# Altium schematic symbol library ZYNQ_ECO_R6.SCHLIB: 32 symbols
Pins are listed as number, name and electrical type; pins without a type are passive.

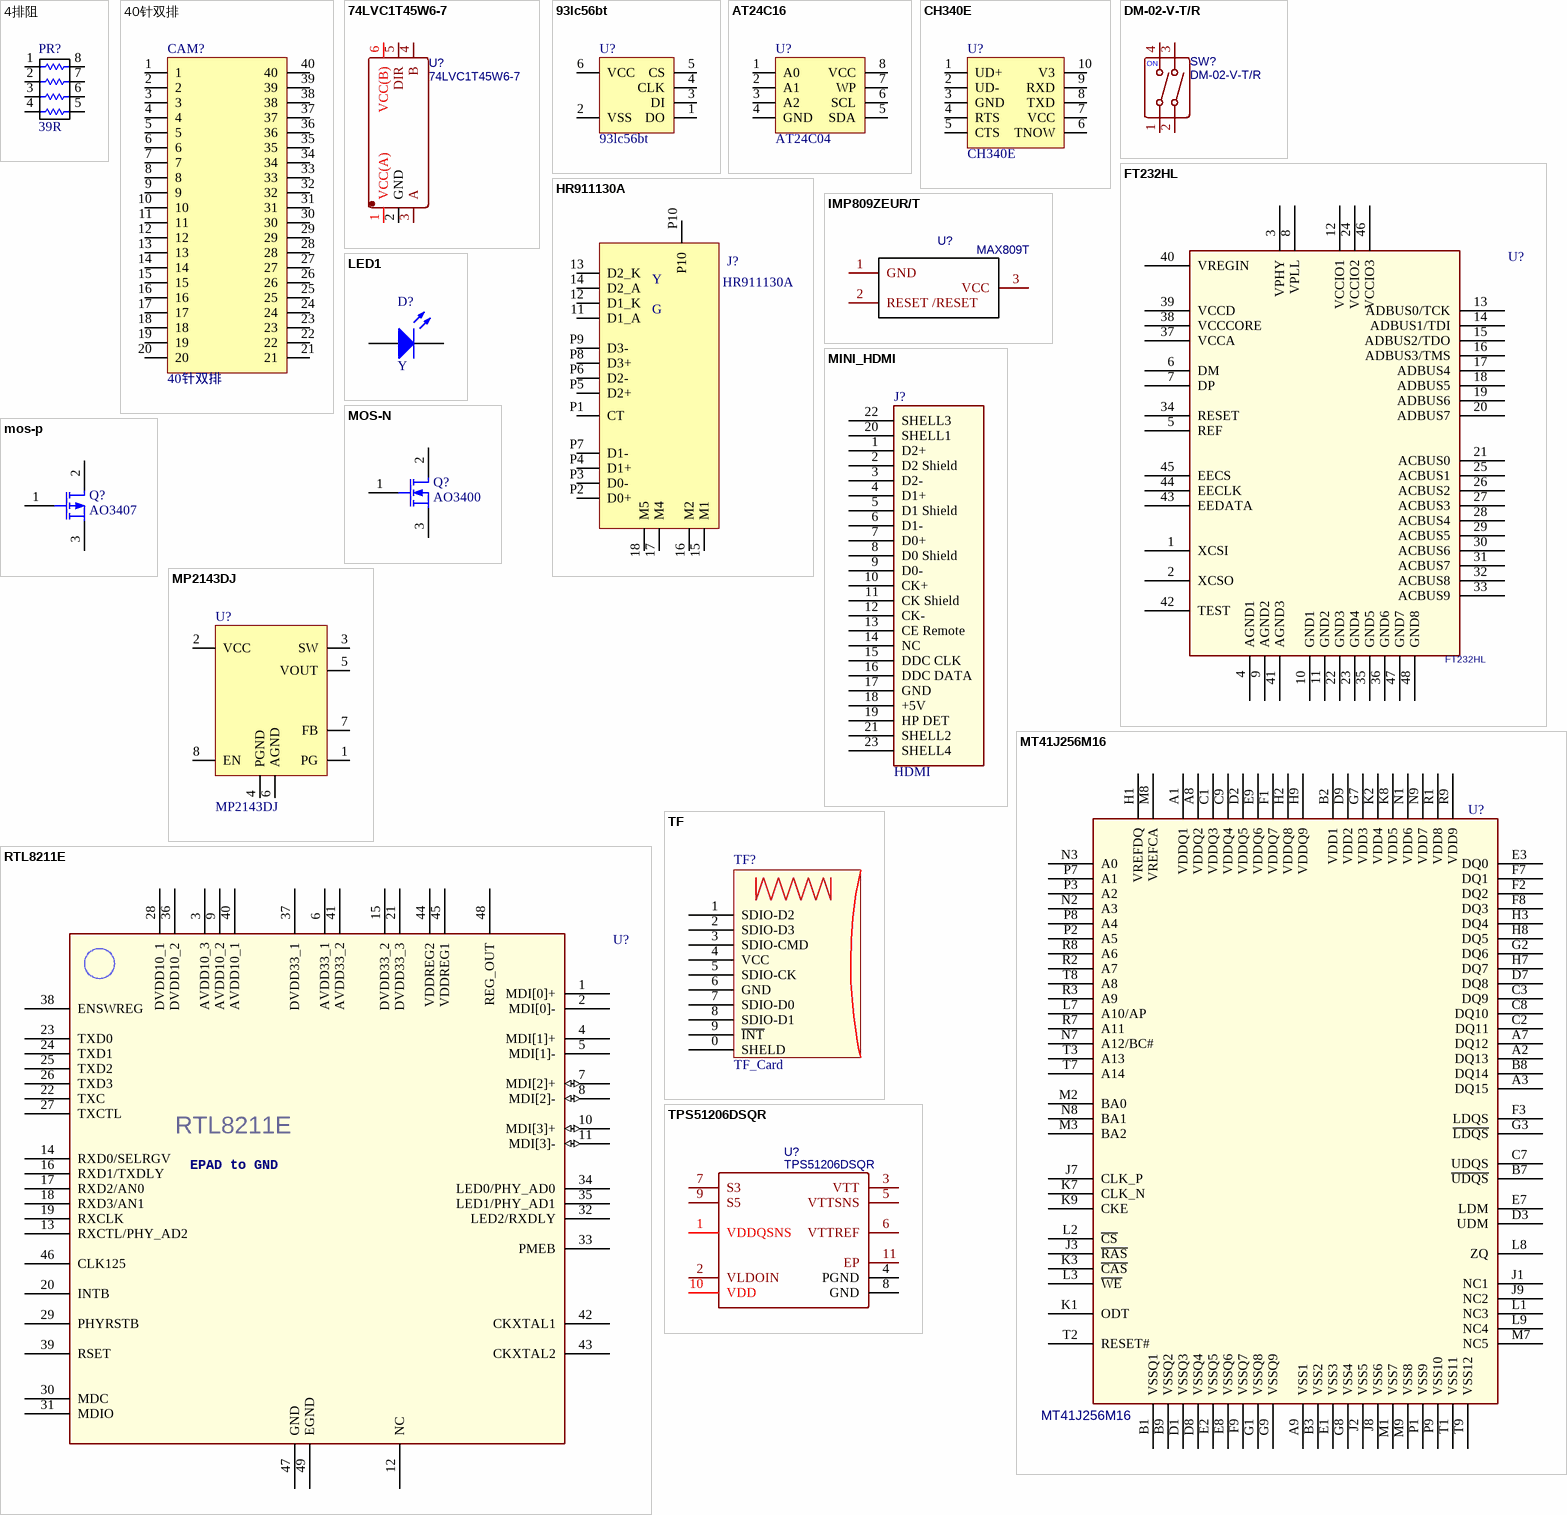
[diagram p0: symbols 4排阻 to TPS51206DSQR]

## 4排阻
designator PR?, comment 39R
footprint 0603-4排阻
footprint 0402-4排阻
footprint 0402-4
pins: 1, 2, 3, 4, 5, 6, 7, 8

## 40针双排
designator CAM?
footprint 40针双排
pins: 1, 2, 3, 4, 5, 6, 7, 8, 9, 10, 11, 12, 13, 14, 15, 16, 17, 18, 19, 20, 21, 22, 23, 24, 25, 26, 27, 28, 29, 30, 31, 32, 33, 34, 35, 36, 37, 38, 39, 40

## 74LVC1T45W6-7
designator U?
BOM_Manufacturer: Diodes Incorporated; Contributor: LCSC; SMT Type: Extend; BOM_Supplier: LCSC; BOM_Supplier Part: C168856; BOM_Manufacturer Part: 74LVC1T45W6-7; BOM_LCSC Assembly: Yes; spicePre: U; spiceSymbolName: 74LVC1T45W6-7
footprint SOT23-6
pins: 1 VCC(A), 2 GND, 3 A, 4 B, 5 DIR, 6 VCC(B)

## 93lc56bt
designator U?
footprint SOT23-6
pins: 1 DO, 2 VSS, 3 DI, 4 CLK, 5 CS, 6 VCC

## AT24C16
designator U?, comment AT24C04
footprint QFN50P300X200X80_HS-9N (QFN, 8-Leads, Body 3.00x2.00mm, Pitch 0.50mm, Thermal Pad 2.00x2.20mm, IPC Medium Density)
pins: 1 A0, 2 A1, 3 A2, 4 GND, 5 SDA, 6 SCL, 7 WP, 8 VCC

## CH340E
designator U?
footprint CH340E
pins: 1 UD+, 2 UD-, 3 GND, 4 RTS, 5 CTS, 6 TNOW, 7 VCC, 8 TXD, 9 RXD, 10 V3

## DM-02-V-T/R
designator SW?
BOM_Manufacturer: Diptronics; Contributor: LCSC; BOM_Supplier: LCSC; BOM_Supplier Part: C225004; BOM_Manufacturer Part: DM-02-V-T/R; spicePre: S
footprint 2.54两段拨码开关
pins: 1, 2, 3, 4
text: ON

## FT232HL
designator U?
footprint qfp48
pins: 1 XCSI, 2 XCSO, 3 VPHY, 4 AGND1, 5 REF, 6 DM, 7 DP, 8 VPLL, 9 AGND2, 10 GND1, 11 GND2, 12 VCCIO1, 13 ADBUS0/TCK, 14 ADBUS1/TDI, 15 ADBUS2/TDO, 16 ADBUS3/TMS, 17 ADBUS4, 18 ADBUS5, 19 ADBUS6, 20 ADBUS7, 21 ACBUS0, 22 GND3, 23 GND4, 24 VCCIO2, 25 ACBUS1, 26 ACBUS2, 27 ACBUS3, 28 ACBUS4, 29 ACBUS5, 30 ACBUS6, 31 ACBUS7, 32 ACBUS8, 33 ACBUS9, 34 RESET, 35 GND5, 36 GND6, 37 VCCA, 38 VCCCORE, 39 VCCD, 40 VREGIN, 41 AGND3, 42 TEST, 43 EEDATA, 44 EECLK, 45 EECS, 46 VCCIO3, 47 GND7, 48 GND8

## HR911130A
designator J?
footprint HR911130A
pins: 11 D1_A, 12 D1_K, 13 D2_K, 14 D2_A, 15 M1, 16 M2, 17 M4, 18 M5, P1 CT, P2 D0+, P3 D0-, P4 D1+, P5 D2+, P6 D2-, P7 D1-, P8 D3+, P9 D3-, P10
text: Y; G

## IMP809ZEUR/T
designator U?, comment MAX809T
BOM_Manufacturer: IMP; BOM_Manufacturer Part: IMP809ZEUR/T; SMT Type: Extend; BOM_Supplier: LCSC; image: //image.lceda.cn/szlcsc/C72851.jpg; BOM_Supplier Part: C72851; BOM_LCSC Assembly: Yes; spicePre: U; spiceSymbolName: IMP809ZEUR/T
footprint imp809
pins: 1 GND, 2 RESET /RESET, 3 VCC

## LED1
designator D?, comment Y
Typical RED GaAs LED; Published: 8-Jun-2000; LatestRevisionDate: 08-Jul-2005; LatestRevisionNote: Mech Layer 1 removed.; PackageReference: LED-1; Publisher: Altium Limited; PackageDescription: LED; 2 Leads
footprint 0805
pins: 1 A, 2 K

## MINI_HDMI
designator J?, comment HDMI
footprint HDMI贴片
pins: 1 D2+, 2 D2 Shield, 3 D2-, 4 D1+, 5 D1 Shield, 6 D1-, 7 D0+, 8 D0 Shield, 9 D0-, 10 CK+, 11 CK Shield, 12 CK-, 13 CE Remote, 14 NC, 15 DDC CLK, 16 DDC DATA, 17 GND, 18 +5V, 19 HP DET, 20 SHELL1, 21 SHELL2, 22 SHELL3, 23 SHELL4

## MOS-N
designator Q?, comment AO3400
footprint SOT23-3
pins: 1 D, 2 G, 3 S

## mos-p
designator Q?, comment AO3407
footprint SOT23-3
pins: 1 D, 2 G, 3 S

## MP2143DJ
designator U?
footprint tsot23-8
pins: 1 PG, 2 VCC, 3 SW, 4 PGND, 5 VOUT, 6 AGND, 7 FB, 8 EN

## MT41J256M16
designator U?
footprint FBGA-96
pins: A1 VDDQ1 (power), A2 DQ13 (power), A3 DQ15 (power), A7 DQ12 (power), A8 VDDQ2 (power), A9 VSS1 (power), B1 VSSQ1 (power), B2 VDD1 (power), B3 VSS2 (power), B7 ~{UDQS} (power), B8 DQ14 (power), B9 VSSQ2 (power), C1 VDDQ3 (power), C2 DQ11 (power), C3 DQ9 (power), C7 UDQS (power), C8 DQ10 (power), C9 VDDQ4 (power), D1 VSSQ3 (power), D2 VDDQ5 (power), D3 UDM, D7 DQ8 (power), D8 VSSQ4 (power), D9 VDD2 (power), E1 VSS3 (power), E2 VSSQ5 (power), E3 DQ0 (power), E7 LDM, E8 VSSQ6 (power), E9 VDDQ6 (power), F1 VDDQ7 (power), F2 DQ2 (power), F3 LDQS (power), F7 DQ1 (power), F8 DQ3 (power), F9 VSSQ7 (power), G1 VSSQ8 (power), G2 DQ6 (power), G3 ~{LDQS} (power), G7 VDD3 (power), G8 VSS4 (power), G9 VSSQ9 (power), H1 VREFDQ (power), H2 VDDQ8 (power), H3 DQ4 (power), H7 DQ7 (power), H8 DQ5 (power), H9 VDDQ9 (power), J1 NC1, J2 VSS5 (power), J3 ~{RAS}, J7 CLK_P, J8 VSS6 (power), J9 NC2, K1 ODT, K2 VDD4 (power), K3 ~{CAS}, K7 CLK_N, K8 VDD5 (power), K9 CKE, L1 NC3, L2 ~{CS}, L3 ~{WE}, L7 A10/AP, L8 ZQ (power), L9 NC4, M1 VSS7 (power), M2 BA0, M3 BA2, M7 NC5, M8 VREFCA (power), M9 VSS8 (power), N1 VDD6 (power), N2 A3, N3 A0, N7 A12/BC#, N8 BA1, N9 VDD7 (power), P1 VSS9 (power), P2 A5, P3 A2, P7 A1, P8 A4, P9 VSS10 (power), R1 VDD8 (power), R2 A7, R3 A9, R7 A11, R8 A6, R9 VDD9 (power), T1 VSS11 (power), T2 RESET# (power), T3 A13, T7 A14 (power), T8 A8, T9 VSS12 (power)

## RTL8211E
designator U?  (value not drawn)
footprint RTL8211-48
pins: 1 MDI[0]+, 2 MDI[0]-, 3 AVDD10_3 (power), 4 MDI[1]+, 5 MDI[1]-, 6 AVDD33_1 (power), 7 MDI[2]+ (io), 8 MDI[2]- (io), 9 AVDD10_2 (power), 10 MDI[3]+ (io), 11 MDI[3]- (io), 12 NC, 13 RXCTL/PHY_AD2, 14 RXD0/SELRGV, 15 DVDD33_2 (power), 16 RXD1/TXDLY, 17 RXD2/AN0, 18 RXD3/AN1, 19 RXCLK, 20 INTB, 21 DVDD33_3 (power), 22 TXC, 23 TXD0, 24 TXD1, 25 TXD2 (power), 26 TXD3, 27 TXCTL, 28 DVDD10_1 (power), 29 PHYRSTB, 30 MDC, 31 MDIO, 32 LED2/RXDLY, 33 PMEB, 34 LED0/PHY_AD0, 35 LED1/PHY_AD1, 36 DVDD10_2 (power), 37 DVDD33_1 (power), 38 ENSWREG, 39 RSET, 40 AVDD10_1, 41 AVDD33_2, 42 CKXTAL1, 43 CKXTAL2, 44 VDDREG2, 45 VDDREG1, 46 CLK125, 47 GND (power), 48 REG_OUT (power), 49 EGND (power)
text: EPAD to GND

## TF
designator TF?, comment TF_Card
footprint 内焊式TF卡
pins: 0 SHELD, 1 SDIO-D2, 2 SDIO-D3, 3 SDIO-CMD, 4 VCC, 5 SDIO-CK, 6 GND, 7 SDIO-D0, 8 SDIO-D1, 9 ~{INT}

## TPS51206DSQR
designator U?
BOM_Manufacturer: TI; BOM_Supplier: LCSC; BOM_Manufacturer Part: TPS51206DSQR; BOM_Supplier Part: C88038; BOM_JLCPCB Part Class: Extended Part; spicePre: U; spiceSymbolName: TPS51206DSQR
footprint TPS51206
pins: 1 VDDQSNS, 2 VLDOIN, 3 VTT, 4 PGND, 5 VTTSNS, 6 VTTREF, 7 S3, 8 GND, 9 S5, 10 VDD, 11 EP

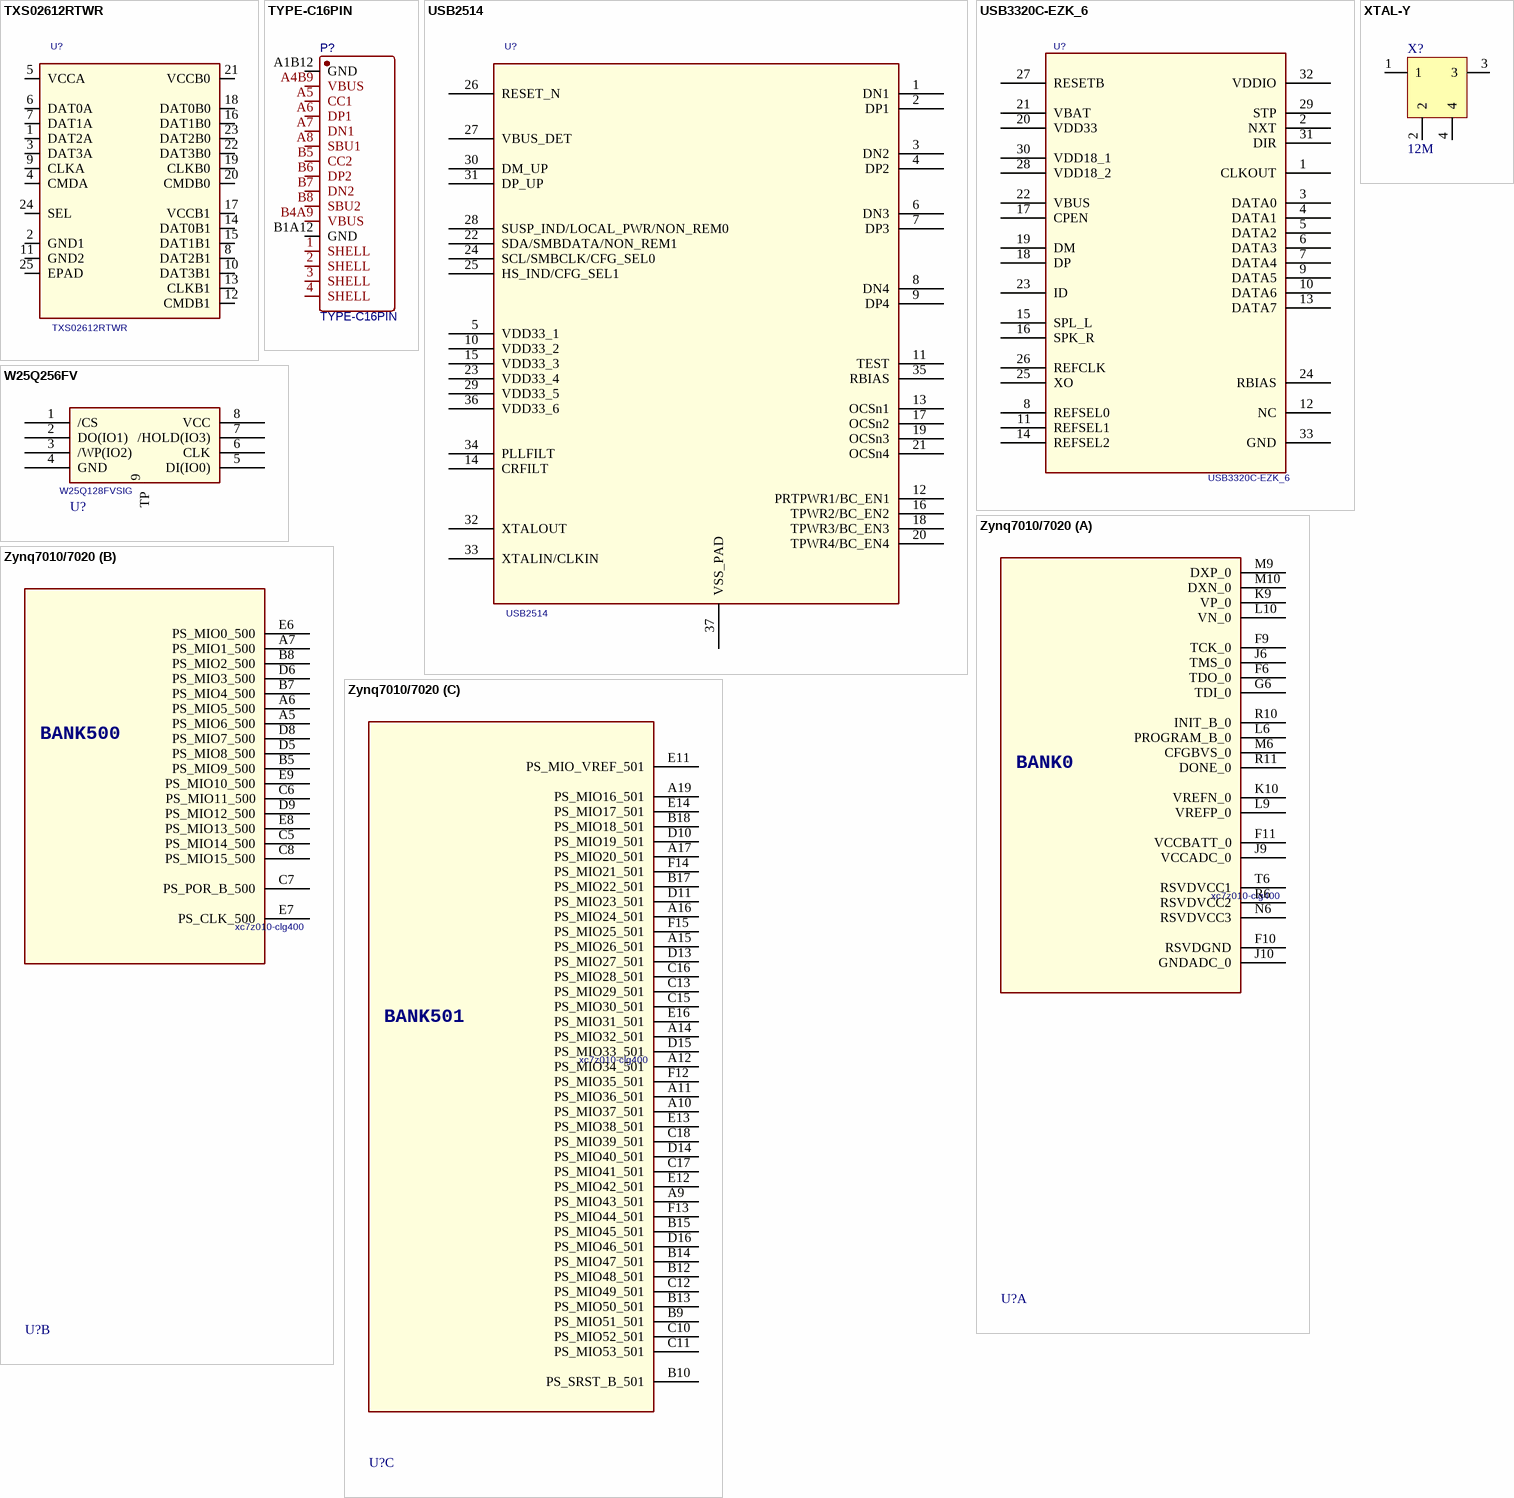
[diagram p1: symbols TXS02612RTWR to Zynq7010/7020]

## TXS02612RTWR
designator U?
footprint TXS02612RTWR
pins: 1 DAT2A, 2 GND1, 3 DAT3A, 4 CMDA, 5 VCCA, 6 DAT0A, 7 DAT1A, 8 DAT2B1, 9 CLKA, 10 DAT3B1, 11 GND2, 12 CMDB1, 13 CLKB1, 14 DAT0B1, 15 DAT1B1, 16 DAT1B0, 17 VCCB1, 18 DAT0B0, 19 CLKB0, 20 CMDB0, 21 VCCB0, 22 DAT3B0, 23 DAT2B0, 24 SEL, 25 EPAD

## TYPE-C16PIN
designator P?
BOM_Manufacturer: SHOU HAN; Contributor: LCSC; BOM_Supplier: LCSC; BOM_Supplier Part: C393939; BOM_Manufacturer Part: TYPE-C16PIN; spicePre: U
footprint TYPE-C
pins: 1 SHELL, 2 SHELL, 3 SHELL, 4 SHELL, A1B12 GND, A4B9 VBUS, A5 CC1, A6 DP1, A7 DN1, A8 SBU1, B1A12 GND, B4A9 VBUS, B5 CC2, B6 DP2, B7 DN2, B8 SBU2

## USB2514
designator U?
footprint USB2514
pins: 1 DN1, 2 DP1, 3 DN2, 4 DP2, 5 VDD33_1, 6 DN3, 7 DP3, 8 DN4, 9 DP4, 10 VDD33_2, 11 TEST, 12 PRTPWR1/BC_EN1, 13 OCSn1, 14 CRFILT, 15 VDD33_3, 16 TPWR2/BC_EN2, 17 OCSn2, 18 TPWR3/BC_EN3, 19 OCSn3, 20 TPWR4/BC_EN4, 21 OCSn4, 22 SDA/SMBDATA/NON_REM1, 23 VDD33_4, 24 SCL/SMBCLK/CFG_SEL0, 25 HS_IND/CFG_SEL1, 26 RESET_N, 27 VBUS_DET, 28 SUSP_IND/LOCAL_PWR/NON_REM0, 29 VDD33_5, 30 DM_UP, 31 DP_UP, 32 XTALOUT, 33 XTALIN/CLKIN, 34 PLLFILT, 35 RBIAS, 36 VDD33_6, 37 VSS_PAD

## USB3320C-EZK_6
designator U?
footprint USB3320C
pins: 1 CLKOUT, 2 NXT, 3 DATA0, 4 DATA1, 5 DATA2, 6 DATA3, 7 DATA4, 8 REFSEL0, 9 DATA5, 10 DATA6, 11 REFSEL1, 12 NC, 13 DATA7, 14 REFSEL2, 15 SPL_L, 16 SPK_R, 17 CPEN, 18 DP, 19 DM, 20 VDD33, 21 VBAT, 22 VBUS, 23 ID, 24 RBIAS, 25 XO, 26 REFCLK, 27 RESETB, 28 VDD18_2, 29 STP, 30 VDD18_1, 31 DIR, 32 VDDIO, 33 GND

## W25Q256FV
designator U?, comment W25Q128FVSIG
footprint MLP8
pins: 1 /CS, 2 DO(IO1), 3 /WP(IO2), 4 GND, 5 DI(IO0), 6 CLK, 7 /HOLD(IO3), 8 VCC, 9 TP

## XTAL-Y
designator X?, comment 12M
footprint 3225
pins: 1, 2, 3, 4

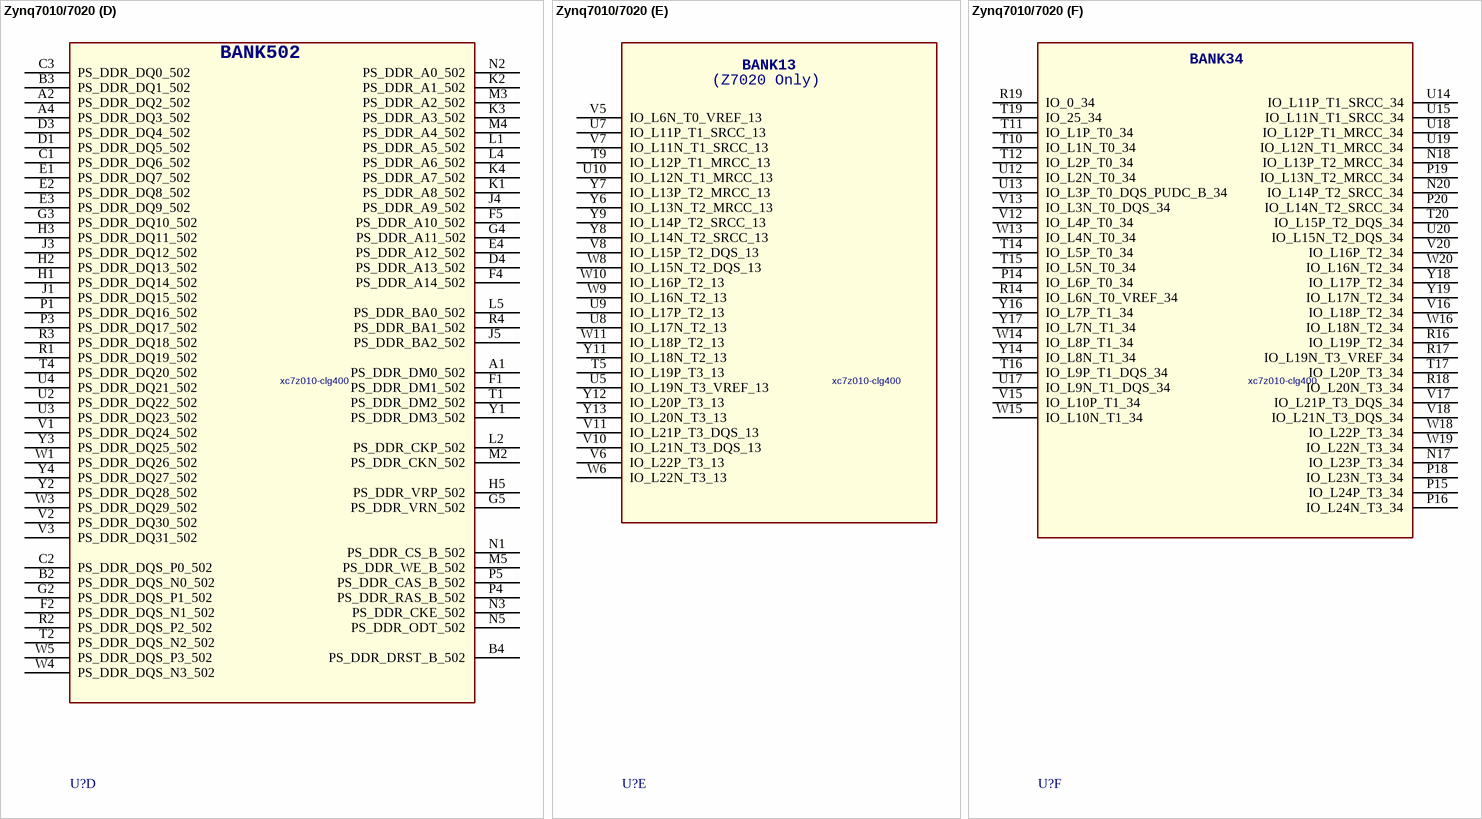
[diagram p2: symbol Zynq7010/7020]

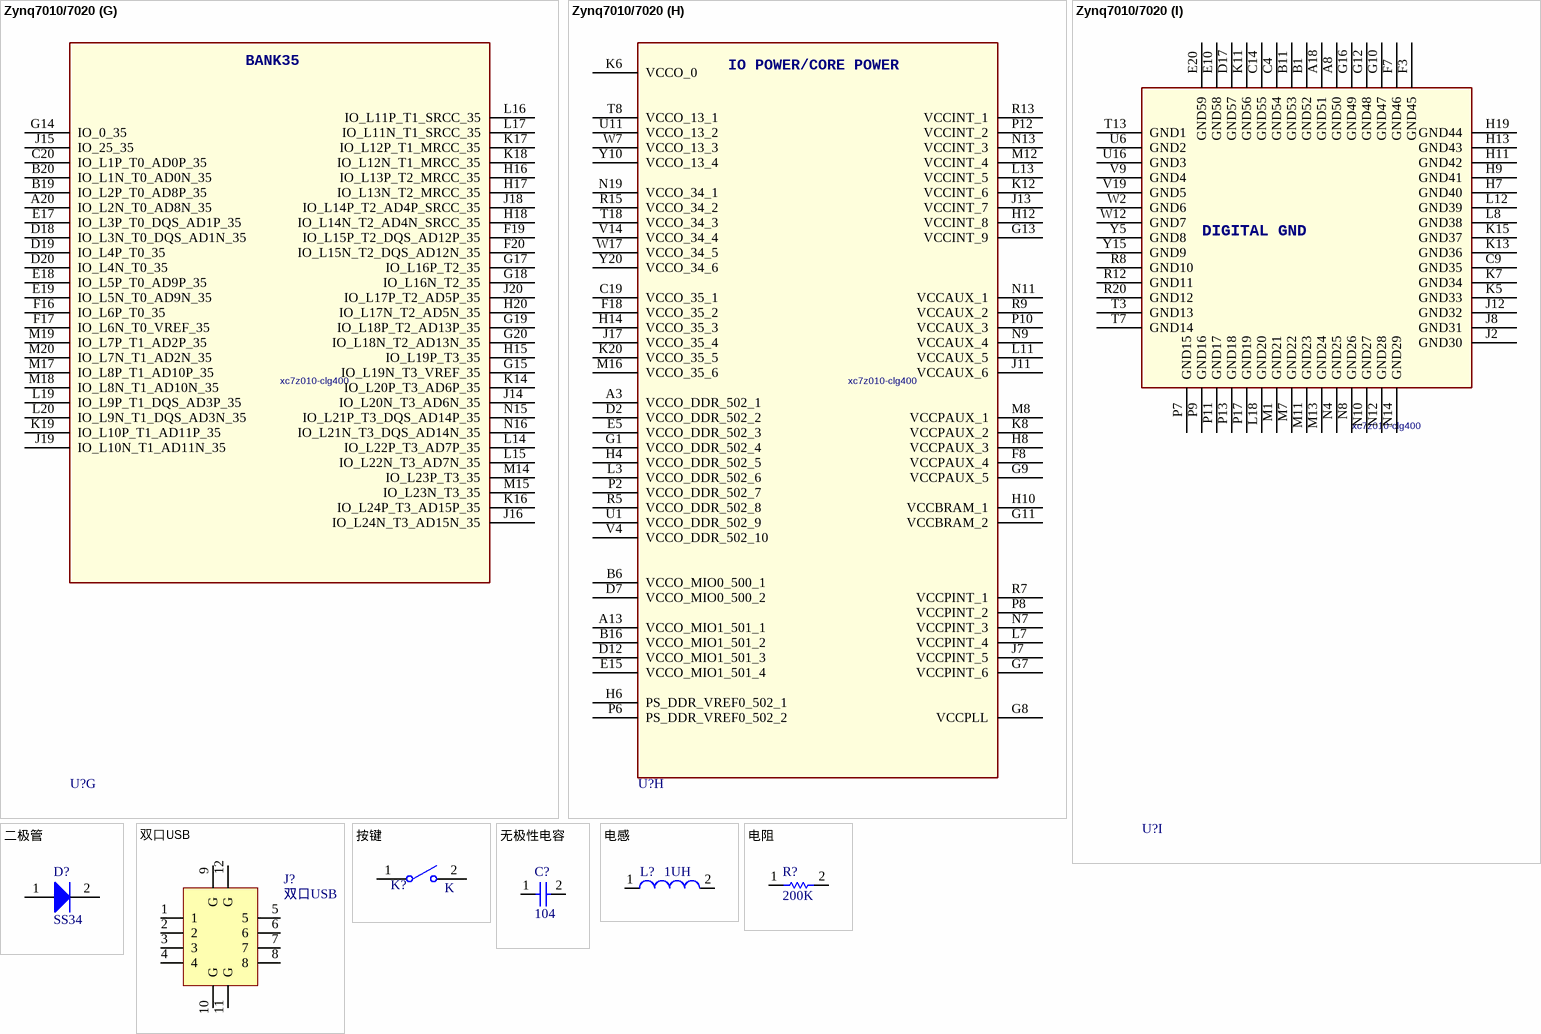
[diagram p3: symbols Zynq7010/7020 to 电阻]

## Zynq7010/7020
designator U?, comment xc7z010-clg400
footprint GLC-400
part A pins: F6 TDO_0, F9 TCK_0, F10 RSVDGND, F11 VCCBATT_0, G6 TDI_0, J6 TMS_0, J9 VCCADC_0, J10 GNDADC_0, K9 VP_0, K10 VREFN_0, L6 PROGRAM_B_0, L9 VREFP_0, L10 VN_0, M6 CFGBVS_0, M9 DXP_0, M10 DXN_0, N6 RSVDVCC3, R6 RSVDVCC2, R10 INIT_B_0, R11 DONE_0, T6 RSVDVCC1
part B pins: A5 PS_MIO6_500, A6 PS_MIO5_500, A7 PS_MIO1_500, B5 PS_MIO9_500, B7 PS_MIO4_500, B8 PS_MIO2_500, C5 PS_MIO14_500, C6 PS_MIO11_500, C7 PS_POR_B_500, C8 PS_MIO15_500, D5 PS_MIO8_500, D6 PS_MIO3_500, D8 PS_MIO7_500, D9 PS_MIO12_500, E6 PS_MIO0_500, E7 PS_CLK_500, E8 PS_MIO13_500, E9 PS_MIO10_500
part C pins: A9 PS_MIO43_501, A10 PS_MIO37_501, A11 PS_MIO36_501, A12 PS_MIO34_501, A14 PS_MIO32_501, A15 PS_MIO26_501, A16 PS_MIO24_501, A17 PS_MIO20_501, A19 PS_MIO16_501, B9 PS_MIO51_501, B10 PS_SRST_B_501, B12 PS_MIO48_501, B13 PS_MIO50_501, B14 PS_MIO47_501, B15 PS_MIO45_501, B17 PS_MIO22_501, B18 PS_MIO18_501, C10 PS_MIO52_501, C11 PS_MIO53_501, C12 PS_MIO49_501, C13 PS_MIO29_501, C15 PS_MIO30_501, C16 PS_MIO28_501, C17 PS_MIO41_501, C18 PS_MIO39_501, D10 PS_MIO19_501, D11 PS_MIO23_501, D13 PS_MIO27_501, D14 PS_MIO40_501, D15 PS_MIO33_501, D16 PS_MIO46_501, E11 PS_MIO_VREF_501, E12 PS_MIO42_501, E13 PS_MIO38_501, E14 PS_MIO17_501, E16 PS_MIO31_501, F12 PS_MIO35_501, F13 PS_MIO44_501, F14 PS_MIO21_501, F15 PS_MIO25_501
part D pins: A1 PS_DDR_DM0_502, A2 PS_DDR_DQ2_502, A4 PS_DDR_DQ3_502, B2 PS_DDR_DQS_N0_502, B3 PS_DDR_DQ1_502, B4 PS_DDR_DRST_B_502, C1 PS_DDR_DQ6_502, C2 PS_DDR_DQS_P0_502, C3 PS_DDR_DQ0_502, D1 PS_DDR_DQ5_502, D3 PS_DDR_DQ4_502, D4 PS_DDR_A13_502, E1 PS_DDR_DQ7_502, E2 PS_DDR_DQ8_502, E3 PS_DDR_DQ9_502, E4 PS_DDR_A12_502, F1 PS_DDR_DM1_502, F2 PS_DDR_DQS_N1_502, F4 PS_DDR_A14_502, F5 PS_DDR_A10_502, G2 PS_DDR_DQS_P1_502, G3 PS_DDR_DQ10_502, G4 PS_DDR_A11_502, G5 PS_DDR_VRN_502, H1 PS_DDR_DQ14_502, H2 PS_DDR_DQ13_502, H3 PS_DDR_DQ11_502, H5 PS_DDR_VRP_502, J1 PS_DDR_DQ15_502, J3 PS_DDR_DQ12_502, J4 PS_DDR_A9_502, J5 PS_DDR_BA2_502, K1 PS_DDR_A8_502, K2 PS_DDR_A1_502, K3 PS_DDR_A3_502, K4 PS_DDR_A7_502, L1 PS_DDR_A5_502, L2 PS_DDR_CKP_502, L4 PS_DDR_A6_502, L5 PS_DDR_BA0_502, M2 PS_DDR_CKN_502, M3 PS_DDR_A2_502, M4 PS_DDR_A4_502, M5 PS_DDR_WE_B_502, N1 PS_DDR_CS_B_502, N2 PS_DDR_A0_502, N3 PS_DDR_CKE_502, N5 PS_DDR_ODT_502, P1 PS_DDR_DQ16_502, P3 PS_DDR_DQ17_502, P4 PS_DDR_RAS_B_502, P5 PS_DDR_CAS_B_502, R1 PS_DDR_DQ19_502, R2 PS_DDR_DQS_P2_502, R3 PS_DDR_DQ18_502, R4 PS_DDR_BA1_502, T1 PS_DDR_DM2_502, T2 PS_DDR_DQS_N2_502, T4 PS_DDR_DQ20_502, U2 PS_DDR_DQ22_502, U3 PS_DDR_DQ23_502, U4 PS_DDR_DQ21_502, V1 PS_DDR_DQ24_502, V2 PS_DDR_DQ30_502, V3 PS_DDR_DQ31_502, W1 PS_DDR_DQ26_502, W3 PS_DDR_DQ29_502, W4 PS_DDR_DQS_N3_502, W5 PS_DDR_DQS_P3_502, Y1 PS_DDR_DM3_502, Y2 PS_DDR_DQ28_502, Y3 PS_DDR_DQ25_502, Y4 PS_DDR_DQ27_502
part E pins: T5 IO_L19P_T3_13, T9 IO_L12P_T1_MRCC_13, U5 IO_L19N_T3_VREF_13, U7 IO_L11P_T1_SRCC_13, U8 IO_L17N_T2_13, U9 IO_L17P_T2_13, U10 IO_L12N_T1_MRCC_13, V5 IO_L6N_T0_VREF_13, V6 IO_L22P_T3_13, V7 IO_L11N_T1_SRCC_13, V8 IO_L15P_T2_DQS_13, V10 IO_L21N_T3_DQS_13, V11 IO_L21P_T3_DQS_13, W6 IO_L22N_T3_13, W8 IO_L15N_T2_DQS_13, W9 IO_L16N_T2_13, W10 IO_L16P_T2_13, W11 IO_L18P_T2_13, Y6 IO_L13N_T2_MRCC_13, Y7 IO_L13P_T2_MRCC_13, Y8 IO_L14N_T2_SRCC_13, Y9 IO_L14P_T2_SRCC_13, Y11 IO_L18N_T2_13, Y12 IO_L20P_T3_13, Y13 IO_L20N_T3_13
part F pins: N17 IO_L23P_T3_34, N18 IO_L13P_T2_MRCC_34, N20 IO_L14P_T2_SRCC_34, P14 IO_L6P_T0_34, P15 IO_L24P_T3_34, P16 IO_L24N_T3_34, P18 IO_L23N_T3_34, P19 IO_L13N_T2_MRCC_34, P20 IO_L14N_T2_SRCC_34, R14 IO_L6N_T0_VREF_34, R16 IO_L19P_T2_34, R17 IO_L19N_T3_VREF_34, R18 IO_L20N_T3_34, R19 IO_0_34, T10 IO_L1N_T0_34, T11 IO_L1P_T0_34, T12 IO_L2P_T0_34, T14 IO_L5P_T0_34, T15 IO_L5N_T0_34, T16 IO_L9P_T1_DQS_34, T17 IO_L20P_T3_34, T19 IO_25_34, T20 IO_L15P_T2_DQS_34, U12 IO_L2N_T0_34, U13 IO_L3P_T0_DQS_PUDC_B_34, U14 IO_L11P_T1_SRCC_34, U15 IO_L11N_T1_SRCC_34, U17 IO_L9N_T1_DQS_34, U18 IO_L12P_T1_MRCC_34, U19 IO_L12N_T1_MRCC_34, U20 IO_L15N_T2_DQS_34, V12 IO_L4P_T0_34, V13 IO_L3N_T0_DQS_34, V15 IO_L10P_T1_34, V16 IO_L18P_T2_34, V17 IO_L21P_T3_DQS_34, V18 IO_L21N_T3_DQS_34, V20 IO_L16P_T2_34, W13 IO_L4N_T0_34, W14 IO_L8P_T1_34, W15 IO_L10N_T1_34, W16 IO_L18N_T2_34, W18 IO_L22P_T3_34, W19 IO_L22N_T3_34, W20 IO_L16N_T2_34, Y14 IO_L8N_T1_34, Y16 IO_L7P_T1_34, Y17 IO_L7N_T1_34, Y18 IO_L17P_T2_34, Y19 IO_L17N_T2_34
part G pins: A20 IO_L2N_T0_AD8N_35, B19 IO_L2P_T0_AD8P_35, B20 IO_L1N_T0_AD0N_35, C20 IO_L1P_T0_AD0P_35, D18 IO_L3N_T0_DQS_AD1N_35, D19 IO_L4P_T0_35, D20 IO_L4N_T0_35, E17 IO_L3P_T0_DQS_AD1P_35, E18 IO_L5P_T0_AD9P_35, E19 IO_L5N_T0_AD9N_35, F16 IO_L6P_T0_35, F17 IO_L6N_T0_VREF_35, F19 IO_L15P_T2_DQS_AD12P_35, F20 IO_L15N_T2_DQS_AD12N_35, G14 IO_0_35, G15 IO_L19N_T3_VREF_35, G17 IO_L16P_T2_35, G18 IO_L16N_T2_35, G19 IO_L18P_T2_AD13P_35, G20 IO_L18N_T2_AD13N_35, H15 IO_L19P_T3_35, H16 IO_L13P_T2_MRCC_35, H17 IO_L13N_T2_MRCC_35, H18 IO_L14N_T2_AD4N_SRCC_35, H20 IO_L17N_T2_AD5N_35, J14 IO_L20N_T3_AD6N_35, J15 IO_25_35, J16 IO_L24N_T3_AD15N_35, J18 IO_L14P_T2_AD4P_SRCC_35, J19 IO_L10N_T1_AD11N_35, J20 IO_L17P_T2_AD5P_35, K14 IO_L20P_T3_AD6P_35, K16 IO_L24P_T3_AD15P_35, K17 IO_L12P_T1_MRCC_35, K18 IO_L12N_T1_MRCC_35, K19 IO_L10P_T1_AD11P_35, L14 IO_L22P_T3_AD7P_35, L15 IO_L22N_T3_AD7N_35, L16 IO_L11P_T1_SRCC_35, L17 IO_L11N_T1_SRCC_35, L19 IO_L9P_T1_DQS_AD3P_35, L20 IO_L9N_T1_DQS_AD3N_35, M14 IO_L23P_T3_35, M15 IO_L23N_T3_35, M17 IO_L8P_T1_AD10P_35, M18 IO_L8N_T1_AD10N_35, M19 IO_L7P_T1_AD2P_35, M20 IO_L7N_T1_AD2N_35, N15 IO_L21P_T3_DQS_AD14P_35, N16 IO_L21N_T3_DQS_AD14N_35
part H pins: A3 VCCO_DDR_502_1, A13 VCCO_MIO1_501_1, B6 VCCO_MIO0_500_1, B16 VCCO_MIO1_501_2, C19 VCCO_35_1, D2 VCCO_DDR_502_2, D7 VCCO_MIO0_500_2, D12 VCCO_MIO1_501_3, E5 VCCO_DDR_502_3, E15 VCCO_MIO1_501_4, F8 VCCPAUX_4, F18 VCCO_35_2, G1 VCCO_DDR_502_4, G7 VCCPINT_6, G8 VCCPLL, G9 VCCPAUX_5, G11 VCCBRAM_2, G13 VCCINT_9, H4 VCCO_DDR_502_5, H6 PS_DDR_VREF0_502_1, H8 VCCPAUX_3, H10 VCCBRAM_1, H12 VCCINT_8, H14 VCCO_35_3, J7 VCCPINT_5, J11 VCCAUX_6, J13 VCCINT_7, J17 VCCO_35_4, K6 VCCO_0, K8 VCCPAUX_2, K12 VCCINT_6, K20 VCCO_35_5, L3 VCCO_DDR_502_6, L7 VCCPINT_4, L11 VCCAUX_5, L13 VCCINT_5, M8 VCCPAUX_1, M12 VCCINT_4, M16 VCCO_35_6, N7 VCCPINT_3, N9 VCCAUX_4, N11 VCCAUX_1, N13 VCCINT_3, N19 VCCO_34_1, P2 VCCO_DDR_502_7, P6 PS_DDR_VREF0_502_2, P8 VCCPINT_2, P10 VCCAUX_3, P12 VCCINT_2, R5 VCCO_DDR_502_8, R7 VCCPINT_1, R9 VCCAUX_2, R13 VCCINT_1, R15 VCCO_34_2, T8 VCCO_13_1, T18 VCCO_34_3, U1 VCCO_DDR_502_9, U11 VCCO_13_2, V4 VCCO_DDR_502_10, V14 VCCO_34_4, W7 VCCO_13_3, W17 VCCO_34_5, Y10 VCCO_13_4, Y20 VCCO_34_6
part I pins: A8 GND50, A18 GND51, B1 GND52, B11 GND53, C4 GND54, C9 GND35, C14 GND55, D17 GND57, E10 GND58, E20 GND59, F3 GND45, F7 GND46, G10 GND47, G12 GND48, G16 GND49, H7 GND40, H9 GND41, H11 GND42, H13 GND43, H19 GND44, J2 GND30, J8 GND31, J12 GND32, K5 GND33, K7 GND34, K11 GND56, K13 GND36, K15 GND37, L8 GND38, L12 GND39, L18 GND20, M1 GND21, M7 GND22, M11 GND23, M13 GND24, N4 GND25, N8 GND26, N10 GND27, N12 GND28, N14 GND29, P7 GND15, P9 GND16, P11 GND17, P13 GND18, P17 GND19, R8 GND10, R12 GND11, R20 GND12, T3 GND13, T7 GND14, T13 GND1, U6 GND2, U16 GND3, V9 GND4, V19 GND5, W2 GND6, W12 GND7, Y5 GND8, Y15 GND9
part A text: BANK0
part B text: BANK500
part C text: BANK501
part D text: BANK502
part E text: BANK13; (Z7020 Only)
part F text: BANK34
part G text: BANK35
part H text: IO POWER/CORE POWER
part I text: DIGITAL GND

## 二极管
designator D?, comment SS34
footprint smaf
pins: 1 A, 2 K

## 双口USB
designator J?
footprint DUAL_USB
pins: 1, 2, 3, 4, 5, 6, 7, 8, 9 G, 10 G, 11 G, 12 G

## 按键
designator K?, comment K
footprint KARBS
pins: 1 COMMON, 2 NO

## 无极性电容
designator C?, comment 104
footprint 0402
pins: 1, 2

## 电感
designator L?, comment 1UH
footprint 3020L
pins: 1, 2

## 电阻
designator R?, comment 200K
footprint 0402
footprint 0603
pins: 1, 2